# Altium footprint library SIGMA_2D.PcbLib: 200 footprints (part 13 of 13)
Each footprint in its own frame and in the unit in brackets; x right, y up, seen from the top. Pads: shape width x height; smd on the part's side, far side on the other; paste and mask are expansions set on the pad; w line width, h text height; cw(c..) or ccw(c..) is an arc to the next point about the centre after c.
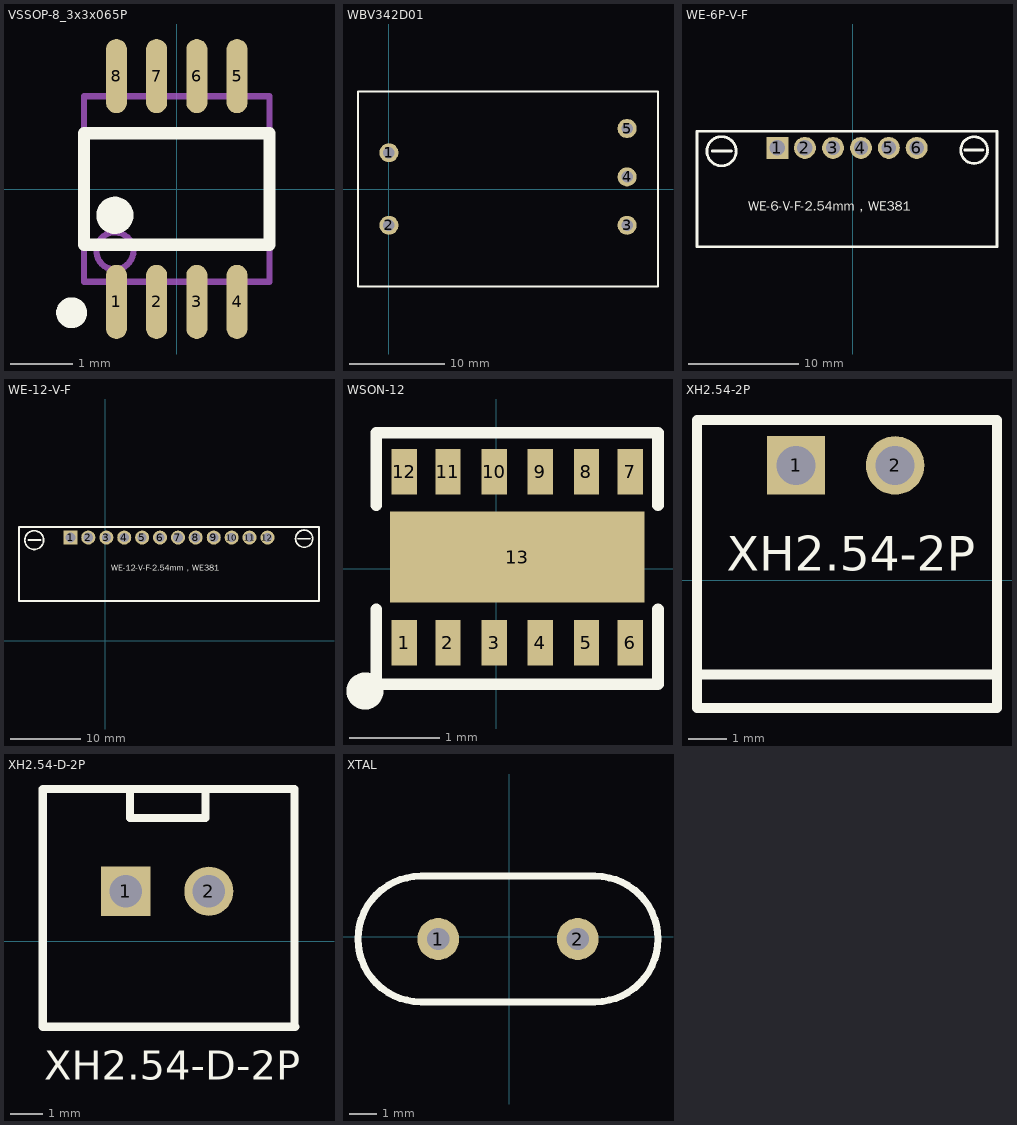
[diagram p12: the footprints below, top view; thin cyan lines are the x and y axes]

## VSSOP-8_3x3x065P [mm]
pads (8):
  oval 0.34x1.2 smd: 1(-0.975,-1.825) 2(-0.325,-1.825) 3(0.325,-1.825) 4(0.975,-1.825) 5(0.975,1.825) 6(0.325,1.825) 7(-0.325,1.825) 8(-0.975,1.825)
Top Overlay:
  circle w0.25: c-1.7,-2 r0.125
  circle w0.35: c-1,-0.425 r0.125
  lines w0.2: -1.5,-0.9 -1.5,0.9 1.5,0.9 1.5,-0.9 -1.5,-0.9
Mechanical 13:
  circle w0.1: c-1,-1 r0.3
  lines w0.1: -1.5,-1.5 -1.5,1.5 1.5,1.5 1.5,-1.5 -1.5,-1.5

## WBV342D01 [mm] "插针式直流电压传感器"
pads (5):
  round 2 hole 1.2: 1(0,3.81) 2(0,-3.81) 3(25,-3.81) 4(25,1.27) 5(25,6.35)
Top Overlay:
  lines w0.2: -3.25,-10.25 -3.25,10.25 28.25,10.25 28.25,-10.25 -3.25,-10.25

## WE-6P-V-F [mm] "SERIE 382 - HORIZONTAL PCB HEADER WITH FLANGES -  PITCH 2.5 MM - WR-TBL"
pads (6):
  rect 2x2 hole 1.4: 1(-6.883,21.107)
  round 2 hole 1.4: 2(-4.369,21.107)
  round 2 hole 1.3: 3(-1.803,21.107) 4(0.737,21.107) 5(3.277,21.107) 6(5.817,21.107)
Top Overlay:
  circle w0.254: c-11.963,20.803 r1.331
  circle w0.254: c11.049,20.904 r1.219
  lines w0.254: -12.802,20.828 -11.049,20.828 ; 10.185,20.904 11.862,20.904 ; -14.199,12.09 -14.199,22.631 13.132,22.631 13.132,12.09 5.156,12.09 0.076,12.09 -14.199,12.09
  text "WE-6-V-F-2.54mm，WE381" at -9.525,15.062 h1.52

## WE-12-V-F [mm] "SERIE 382 - HORIZONTAL PCB HEADER WITH FLANGES -  PITCH 2.5 MM - WR-TBL"
pads (12):
  rect 2x2 hole 1.4: 1(-4.953,14.656)
  round 2 hole 1.4: 2(-2.438,14.656) 7(10.287,14.656) 8(12.802,14.656)
  round 2 hole 1.3: 3(0.127,14.656) 4(2.667,14.656) 5(5.207,14.656) 6(7.747,14.656) 9(15.367,14.656) 10(17.907,14.656) 11(20.447,14.656) 12(22.987,14.656)
Top Overlay:
  circle w0.254: c-10.109,14.3 r1.331
  circle w0.254: c28.194,14.503 r1.219
  lines w0.254: -10.947,14.326 -9.195,14.326 ; 27.33,14.503 29.007,14.503 ; -12.268,5.639 2.007,5.639 7.087,5.639 30.302,5.639 30.302,16.18 -12.268,16.18 -12.268,5.639
  text "WE-12-V-F-2.54mm，WE381" at 0.813,9.576 h1.52

## WSON-12 [mil] "TPS62745DSSR"
pads (13):
  rect 11x19.7 smd: 1(-40,-32) 2(-21,-32) 3(-1,-32) 4(19,-32) 5(39,-32) 6(58,-32) 7(58,42) 8(39,42) 9(19,42) 10(-1,42) 11(-21,42) 12(-40,42)
  rect 110.2x39.4 smd: 13(9,5)
Top Overlay:
  circle w10: c-57,-53 r3
  lines w5: -52,-17.53 -52,-50 70,-50 70,-17.53 ; -52,27.53 -52,59 70,59 70,27.53

## XH2.54-2P [mm]
pads (2):
  rect 1.5x1.5 hole 1: 1(-8.407,2.946)
  round 1.5 hole 1: 2(-5.867,2.946)
Top Overlay:
  lines w0.254: -10.897,-2.413 -3.251,-2.413 ; -10.947,-3.277 -3.251,-3.277 -3.251,4.115 -10.947,4.115 -10.947,-3.277
  text "XH2.54-2P" at -10.185,-0.051 h1.52

## XH2.54-D-2P [mm]
pads (2):
  rect 1.5x1.5 hole 1: 1(-8.103,1.524)
  round 1.5 hole 1: 2(-5.563,1.524)
Top Overlay:
  lines w0.254: -10.643,-2.616 -10.643,4.648 -8.719,4.648 -4.87,4.648 -2.946,4.648 -2.946,-2.616 ; -10.566,-2.616 -2.921,-2.616 ; -7.976,4.572 -7.976,3.759 -5.664,3.759 -5.664,4.521
  text "XH2.54-D-2P" at -10.592,-4.521 h1.52

## XTAL [mil] "49S"
pads (2):
  round 60 hole 32: 1(-102,-3) 2(98,-3)
Top Overlay:
  lines w10: -127,-93 cw(c-127,-3) -127,87 123,87 cw(c123,-3) 123,-93 -127,-93